# Altium schematic symbol library LEM Current Transducer.SchLib: 2 symbols
Pins are listed as number, name and electrical type; pins without a type are passive.

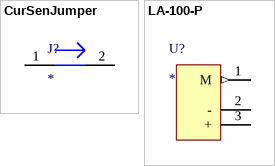
[diagram p0: symbols CurSenJumper to LA-100-P]

## CurSenJumper
designator J?
footprint CURSEN_JUMPER_H_I
footprint CURSEN_JUMPER_V
footprint CURSEN_JUMPER_H_O
pins: 1, 2

## LA-100-P
designator U?
Current Transducer
footprint LA-100-P
footprint LA-100-P_H_I
footprint LA-100-P_H_O
pins: 1 M (out), 2 - (power), 3 + (power)